# Altium footprint library 28pins_project_V1I1.PcbLib: 26 footprints (part 2 of 2)
Each footprint in its own frame and in the unit in brackets; x right, y up, seen from the top. Pads: shape width x height; smd on the part's side, far side on the other; paste and mask are expansions set on the pad; w line width, h text height; cw(c..) or ccw(c..) is an arc to the next point about the centre after c.
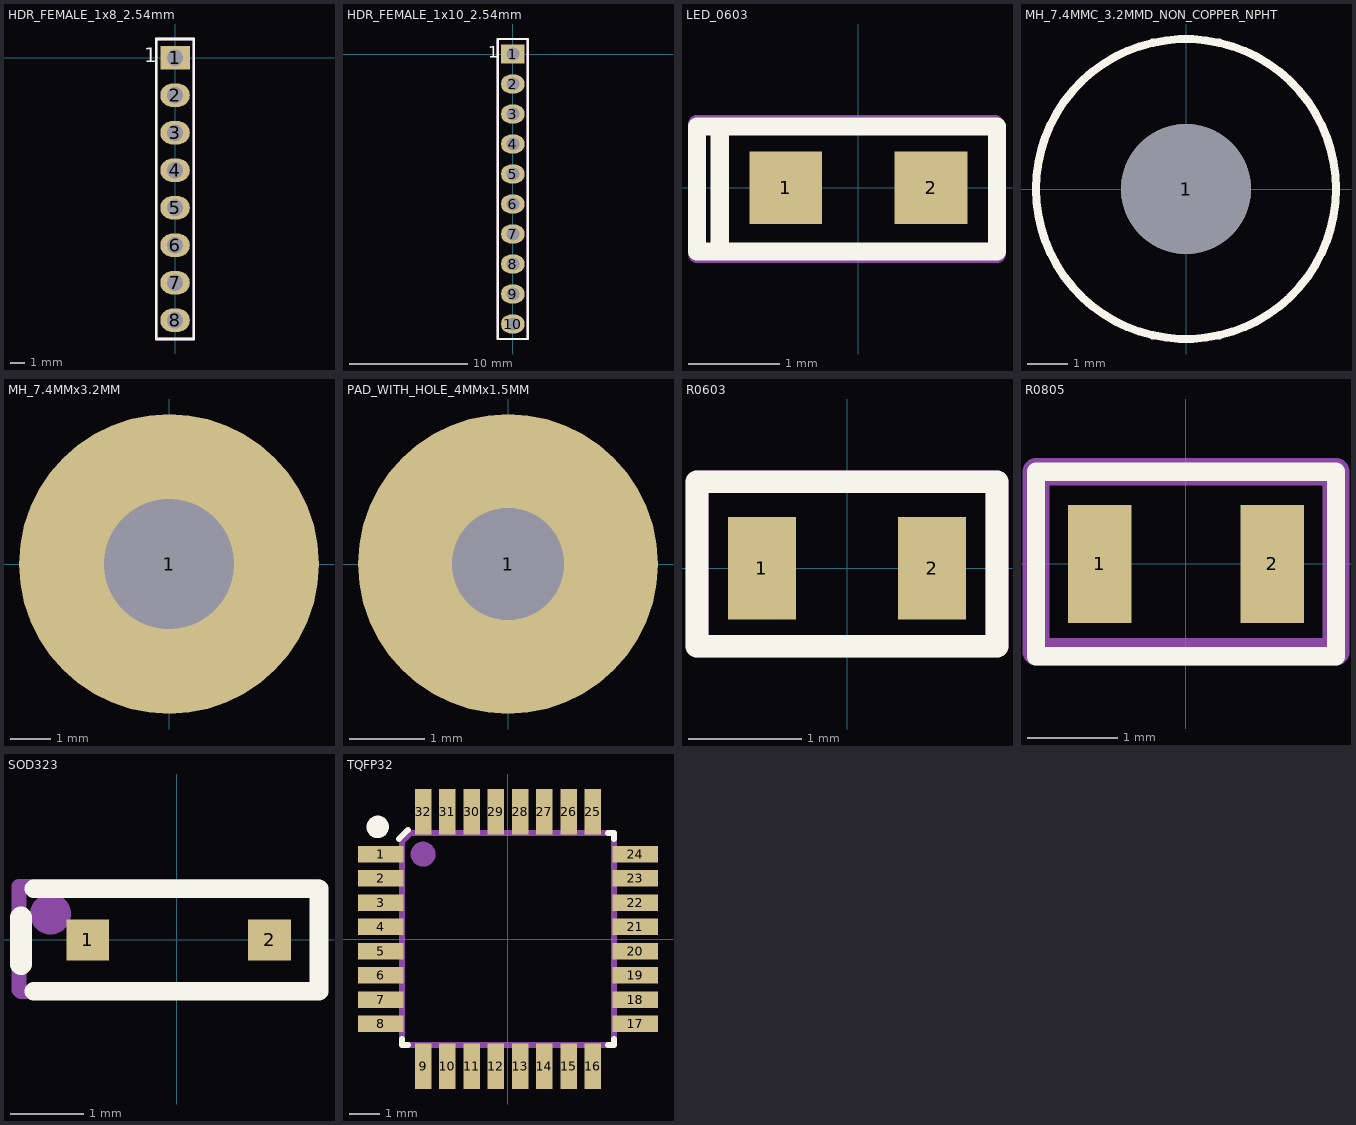
[diagram p1: the footprints below, top view; thin cyan lines are the x and y axes]

## HDR_FEMALE_1x8_2.54mm [mm]
pads (8):
  rect 2x1.6 hole 1.1: 1(0,0)
  oval 2x1.6 hole 1.1: 2(0,-2.54) 3(0,-5.08) 4(0,-7.62) 5(0,-10.16) 6(0,-12.7) 7(0,-15.24) 8(0,-17.78)
Top Overlay:
  lines w0.2: -1.27,-19.05 1.27,-19.05 1.27,1.27 -1.27,1.27 -1.27,-19.05
  text "1" at -2.086,-0.308 h1
Mechanical 29:
  circle w0.508: c0,0 r0.254
  lines w0.2: -1.27,-19.05 -1.27,1.27 1.27,1.27 1.27,-19.05 -1.27,-19.05
  text ".Designator" at 0.246,-10.722 h0.95
3D body "m20-7820842_asm.stp": height 8.31, standoff -3.19, extent -1.23,-19.25 1.27,1.47

## HDR_FEMALE_1x10_2.54mm [mm]
pads (10):
  rect 2x1.6 hole 1.1: 1(0,0)
  oval 2x1.6 hole 1.1: 2(0,-2.54) 3(0,-5.08) 4(0,-7.62) 5(0,-10.16) 6(0,-12.7) 7(0,-15.24) 8(0,-17.78) 9(0,-20.32) 10(0,-22.86)
Top Overlay:
  lines w0.2: -1.27,-24.13 -1.27,1.27 1.27,1.27 1.27,-24.13 -1.27,-24.13
  text "1" at -2.086,-0.308 h1
Mechanical 29:
  circle w0.508: c0,0 r0.254
  lines w0.2: -1.27,-24.13 1.27,-24.13 1.27,1.27 -1.27,1.27 -1.27,-24.13
  text ".Designator" at 0.246,-10.722 h0.95
3D body "m20-7821046_asm.stp": height 8.31, standoff -3.19, extent -1.23,-24.33 1.27,1.47

## LED_0603 [mm]
pads (2):
  rect 0.8x0.8 smd: 1(-0.8,0) 2(0.8,0)
Top Overlay:
  lines w0.2: -1.525,-0.7 -1.525,0.675 ; -1.525,-0.7 1.525,-0.7 1.525,0.675 -1.525,0.675 ; -1.525,-0.7 -1.775,-0.7 -1.775,0.675 -1.525,0.675
Mechanical 29:
  lines w0.2: -1.775,-0.725 -1.775,0.7 1.5,0.7 1.525,0.675 1.525,-0.725 -1.775,-0.725
  text ".Designator" at -1.525,-0.25 h0.6
3D body "User Library-LED SMD 0603 super red.step": height 0.66, standoff 0.01, extent -0.85,-0.4 0.85,0.4

## MH_7.4MMC_3.2MMD_NON_COPPER_NPHT [mm]
pads (1):
  round 3.2 hole 3.2 unplated: 1(0,0)
Top Overlay:
  circle w0.2: c0,0 r3.7

## MH_7.4MMx3.2MM [mm]
pads (1):
  round 7.4 hole 3.2: 1(0,0)

## PAD_WITH_HOLE_4MMx1.5MM [mm]
pads (1):
  round 4 hole 1.5: 1(0,0)

## R0603 [mm]
pads (2):
  rect 0.6x0.9 smd: 1(-0.75,0) 2(0.75,0)
Top Overlay:
  lines w0.2: -1.321,-0.686 -1.321,0.762 1.321,0.762 1.321,-0.686 -1.321,-0.686
Mechanical 29:
  lines w0.2: -1.321,-0.686 -1.321,0.762 1.321,0.762 1.321,-0.686 -1.321,-0.686
  text ".Designator" at -0.84,-0.081 h0.6
3D body "R0603.step": height 0.81, standoff 0.01, extent -0.787,-0.42 0.813,0.42

## R0805 [mm]
pads (2):
  rect 0.7x1.3 smd: 1(-0.95,0) 2(0.95,0)
Top Overlay:
  lines w0.2: -1.651,-1.016 1.651,-1.016 ; -1.651,-1.016 1.651,-1.016 ; -1.651,-1.016 -1.651,1.016 ; -1.651,-1.016 -1.651,1.016 ; -1.651,1.016 1.651,1.016 ; -1.651,1.016 1.651,1.016 ; 1.651,-1.016 1.651,1.016 ; 1.651,-1.016 1.651,1.016
Mechanical 29:
  lines w0.3: -1.651,-0.965 -1.651,1.016 1.651,1.016 1.651,-0.965 -1.651,-0.965
  text ".Designator" at -0.994,-0.33 h1
3D body "RC0805N_YAG.step": height 0.71, standoff 0, extent -1.028,-0.597 0.978,0.597

## SOD323 [mil]
pads (2):
  rect 23x22 smd: 1(-48,0) 2(50,0)
Top Overlay:
  lines w10: -77,-27.56 76.63,-27.56 76.63,-13.78 76.63,13.78 76.63,27.56 -77,27.56
  lines w11.81: -84,-13 -84,12
Mechanical 29:
  circle w20: c-68,14 r1
  lines w7.87: -85,-27 -85,29 76,29 76,-28 -84,-28 -85,-27
  text ".Designator" at -48.06,-4.19 h23.62
3D body "User Library-SOD323.step": height 35.43, standoff -3.54, extent -48.21,-25.21 50.21,24

## TQFP32 [mm]
pads (32):
  rect 1.5x0.55 smd mask+0.06: 1(-4.2,2.8) 2(-4.2,2) 3(-4.2,1.2) 4(-4.2,0.4) 5(-4.2,-0.4) 6(-4.2,-1.2) 7(-4.2,-2) 8(-4.2,-2.8) 17(4.2,-2.8) 18(4.2,-2) 19(4.2,-1.2) 20(4.2,-0.4) 21(4.2,0.4) 22(4.2,1.2) 23(4.2,2) 24(4.2,2.8)
  rect 0.55x1.5 smd mask+0.06: 9(-2.8,-4.2) 10(-2,-4.2) 11(-1.2,-4.2) 12(-0.4,-4.2) 13(0.4,-4.2) 14(1.2,-4.2) 15(2,-4.2) 16(2.8,-4.2) 25(2.8,4.2) 26(2,4.2) 27(1.2,4.2) 28(0.4,4.2) 29(-0.4,4.2) 30(-1.2,4.2) 31(-2,4.2) 32(-2.8,4.2)
Top Overlay:
  circle w0.54: c-4.3,3.7 r0.1
  lines w0.2: -3.6,3.3 -3.3,3.6 ; -3.5,-3.3 -3.5,-3.5 -3.3,-3.5 ; 3.3,-3.5 3.5,-3.5 3.5,-3.3 ; 3.3,3.5 3.5,3.5 3.5,3.3
Mechanical 29:
  circle w0.54: c-2.8,2.8 r0.141
  lines w0.2: -3.5,-3.5 -3.3,-3.5 3.5,-3.5 3.5,3.5 -3.2,3.5 -3.5,3.2 -3.5,-3.3 -3.5,-3.5
  text ".Designator" at -0.2,-0.033 h0.8
3D body "32A_ATM.step": height 1.2, standoff 0, extent -4.723,-4.623 4.523,4.623